# Altium schematic symbol library MiniMP3Module.SchLib: 1 symbol
Pins are listed as number, name and electrical type; pins without a type are passive.

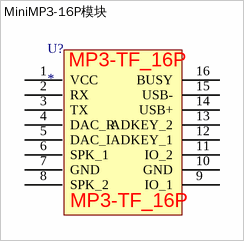
[diagram p0: symbol MiniMP3-16P模块]

## MiniMP3-16P模块
designator U?
footprint MiniMP3模块
pins: 1 VCC, 2 RX, 3 TX, 4 DAC_R, 5 DAC_I, 6 SPK_1, 7 GND, 8 SPK_2, 9 IO_1, 10 GND, 11 IO_2, 12 ADKEY_1, 13 ADKEY_2, 14 USB+, 15 USB-, 16 BUSY
text: MP3-TF_16P